# Altium schematic symbol library 8A8K64S4A12.SCHLIB: 30 symbols
Pins are listed as number, name and electrical type; pins without a type are passive.

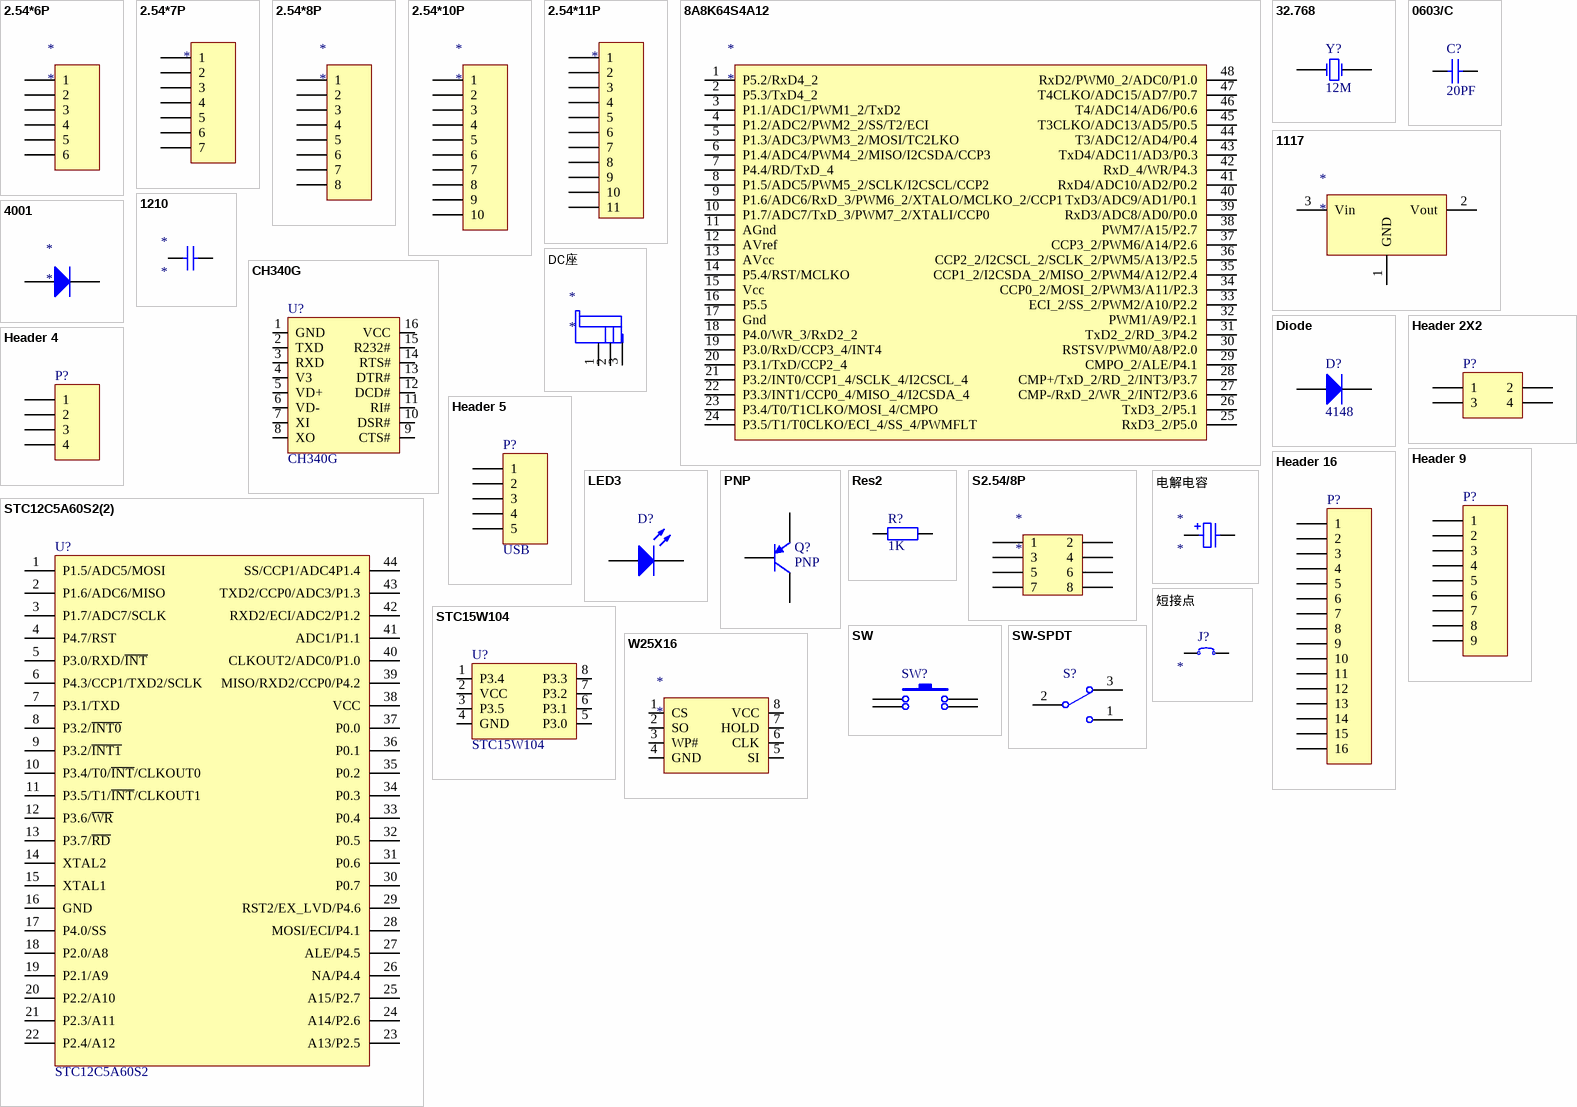
[diagram p0: symbols 2.54*6P to 短接点]

## 2.54*6P
designator *
footprint P2.54/6PIN
pins: 1, 2, 3, 4, 5, 6

## 2.54*7P
designator *
footprint P2.54*7PIN
pins: 1, 2, 3, 4, 5, 6, 7

## 2.54*8P
designator *
footprint P2.54/8PIN
pins: 1, 2, 3, 4, 5, 6, 7, 8

## 2.54*10P
designator *
footprint P2.54/10PIN
pins: 1, 2, 3, 4, 5, 6, 7, 8, 9, 10

## 2.54*11P
designator *
footprint P2.54/11PIN
pins: 1, 2, 3, 4, 5, 6, 7, 8, 9, 10, 10 11

## 8A8K64S4A12
designator *
footprint LQFP48
pins: 1 P5.2/RxD4_2, 2 P5.3/TxD4_2, 3 P1.1/ADC1/PWM1_2/TxD2, 4 P1.2/ADC2/PWM2_2/SS/T2/ECI, 5 P1.3/ADC3/PWM3_2/MOSI/TC2LKO, 6 P1.4/ADC4/PWM4_2/MISO/I2CSDA/CCP3, 7 P4.4/RD/TxD_4, 8 P1.5/ADC5/PWM5_2/SCLK/I2CSCL/CCP2, 9 P1.6/ADC6/RxD_3/PWM6_2/XTALO/MCLKO_2/CCP1, 10 P1.7/ADC7/TxD_3/PWM7_2/XTALI/CCP0, 11 AGnd, 12 AVref, 13 AVcc, 14 P5.4/RST/MCLKO, 15 Vcc, 16 P5.5, 17 Gnd, 18 P4.0/WR_3/RxD2_2, 19 P3.0/RxD/CCP3_4/INT4, 20 P3.1/TxD/CCP2_4, 21 P3.2/INT0/CCP1_4/SCLK_4/I2CSCL_4, 22 P3.3/INT1/CCP0_4/MISO_4/I2CSDA_4, 23 P3.4/T0/T1CLKO/MOSI_4/CMPO, 24 P3.5/T1/T0CLKO/ECI_4/SS_4/PWMFLT, 25 RxD3_2/P5.0, 26 TxD3_2/P5.1, 27 CMP-/RxD_2/WR_2/INT2/P3.6, 28 CMP+/TxD_2/RD_2/INT3/P3.7, 29 CMPO_2/ALE/P4.1, 30 RSTSV/PWM0/A8/P2.0, 31 TxD2_2/RD_3/P4.2, 32 PWM1/A9/P2.1, 33 ECI_2/SS_2/PWM2/A10/P2.2, 34 CCP0_2/MOSI_2/PWM3/A11/P2.3, 35 CCP1_2/I2CSDA_2/MISO_2/PWM4/A12/P2.4, 36 CCP2_2/I2CSCL_2/SCLK_2/PWM5/A13/P2.5, 37 CCP3_2/PWM6/A14/P2.6, 38 PWM7/A15/P2.7, 39 RxD3/ADC8/AD0/P0.0, 40 TxD3/ADC9/AD1/P0.1, 41 RxD4/ADC10/AD2/P0.2, 42 RxD_4/WR/P4.3, 43 TxD4/ADC11/AD3/P0.3, 44 T3/ADC12/AD4/P0.4, 45 T3CLKO/ADC13/AD5/P0.5, 46 T4/ADC14/AD6/P0.6, 47 T4CLKO/ADC15/AD7/P0.7, 48 RxD2/PWM0_2/ADC0/P1.0

## 32.768
designator Y?, comment 12M
footprint 0603
footprint 晶振HC-49/SMD
pins: 1 OSC1, 2 OSC2

## 0603/C
designator C?, comment 20PF
footprint 0603/C
pins: 1, 2

## 1117
designator *
footprint SOT-223
pins: 1 GND, 2 Vout, 3 Vin

## 1210
designator *
footprint 1210
pins: 1, 2

## 4001
designator *
footprint 4001
pins: 1 A, 2 K

## CH340G
designator U?
footprint SOP16
pins: 1 GND, 2 TXD, 3 RXD, 4 V3, 5 VD+, 6 VD-, 7 XI, 8 XO, 9 CTS#, 10 DSR#, 11 RI#, 12 DCD#, 13 DTR#, 14 RTS#, 15 R232#, 16 VCC

## DC座
designator *
footprint DC座
pins: 1 *, 2 *, 3 *

## Diode
designator D?, comment 4148
Default Diode; Published: 8-Jun-2000; LatestRevisionDate: 17-Jul-2002; LatestRevisionNote: Re-released for DXP Platform.; PackageVersion: Sep-1996; PackageReference: SMC; Publisher: Altium Limited; PackageDescription: DO-214-AB/SMC; 2 C-Bend Leads; Body 7.9 x 5.9 mm, inc. leads (LxW); Code_JEDEC: DO-214-AB
footprint SMC (DO-214-AB/SMC; 2 C-Bend Leads; Body 7.9 x 5.9 mm, inc. leads (LxW))
simulation model DIODE (Diode)
signal-integrity model Diode
footprint 二极管
pins: 1 A, 2 K

## Header 2X2
designator P?  (value not drawn)
Header, 2-Pin, Dual row; LatestRevisionDate: 17-Jul-2002; LatestRevisionNote: Re-released for DXP Platform.; Publisher: Altium Limited
footprint HDR2X2 (Connector; Header; 2x2 Position)
signal-integrity model Connector
pins: 1, 2, 3, 4

## Header 4
designator P?  (value not drawn)
Header, 4-Pin; LatestRevisionDate: 17-Jul-2002; LatestRevisionNote: Re-released for DXP Platform.; Publisher: Altium Limited
footprint HDR1X4 (Connector; Header; 4 Position)
signal-integrity model Connector
footprint P2.54/4PIN
pins: 1, 2, 3, 4

## Header 5
designator P?, comment USB
Header, 5-Pin; LatestRevisionDate: 17-Jul-2002; LatestRevisionNote: Re-released for DXP Platform.; Publisher: Altium Limited
footprint HDR1X5 (Connector; Header; 5 Position)
signal-integrity model Connector
footprint USB
pins: 1, 2, 3, 4, 5

## Header 9
designator P?  (value not drawn)
Header, 9-Pin; LatestRevisionDate: 17-Jul-2002; LatestRevisionNote: Re-released for DXP Platform.; Publisher: Altium Limited
footprint HDR1X9 (Connector; Header; 9 Position)
signal-integrity model Connector
footprint P2.54/9PIN
pins: 1, 2, 3, 4, 5, 6, 7, 8, 9

## Header 16
designator P?  (value not drawn)
Header, 16-Pin; LatestRevisionDate: 17-Jul-2002; LatestRevisionNote: Re-released for DXP Platform.; Publisher: Altium Limited
footprint HDR1X16 (Connector; Header; 16 Position)
signal-integrity model Connector
footprint P2.54/16PIN
pins: 1, 2, 3, 4, 5, 6, 7, 8, 9, 10, 11, 12, 13, 14, 15, 16

## LED3
designator D?  (value not drawn)
Typical BLUE SiC LED; Published: 8-Jun-2000; LatestRevisionDate: 17-Dec-2003; LatestRevisionNote: PCB Footprint replaced.; DatasheetVersion: 16-Apr-2002; PackageVersion: 16-Apr-2002; PackageReference: 3.5X2.8X1.9; Publisher: Altium Limited; PackageDescription: SM LED; 2 C-Bend Leads; Body 3.5 x 2.8 x 1.9 mm, inc leads (LxWxH typ)
footprint LED/0603
pins: 1 A, 2 K

## PNP
designator Q?
PNP Bipolar Transistor; Published: 8-Jun-2000; LatestRevisionDate: 29-May-2009; LatestRevisionNote: IPC-7351 Footprint Added.; PackageVersion: Aug-1999; PackageReference: SOT-23B; Publisher: Altium Limited; PackageDescription: 3-Pin SOT-23 Package 0.95 mm Pitch, 2.4 mm Lead Span
footprint SOT-23B_N (SOT23, 3-Leads, Body 2.9x1.3mm, Pitch 0.95mm, Lead Span 2.4mm, IPC Medium Density)
footprint SOT-23B_L (SOT23, 3-Leads, Body 2.9x1.3mm, Pitch 0.95mm, Lead Span 2.4mm, IPC High Density)
footprint SOT-23B_M (SOT23, 3-Leads, Body 2.9x1.3mm, Pitch 0.95mm, Lead Span 2.4mm, IPC Low Density)
simulation model PNP
signal-integrity model PNP
footprint PNP
footprint PNP
footprint PNP
pins: 1 C, 2 B, 3 E

## Res2
designator R?, comment 1K
Resistor; Published: 8-Jun-2000; LatestRevisionDate: 17-Jul-2002; LatestRevisionNote: Re-released for DXP Platform.; PackageReference: AXIAL-0.4; Publisher: Altium Limited; PackageDescription: Axial Device, Thru-Hole; 2 Leads; 0.4 in Pin Spacing; Value: 1K
footprint AXIAL-0.4 (Axial Device, Thru-Hole; 2 Leads; 0.4 in Pin Spacing)
simulation model RESISTOR (Resistor)
signal-integrity model Res
footprint 0603/R
pins: 1, 2

## S2.54/8P
designator *
footprint S2.54/8P
pins: 1, 2, 3, 4, 5, 6, 7, 8

## STC12C5A60S2(2)
designator U?, comment STC12C5A60S2
footprint LQFP32
footprint LQFP44
footprint LQFP44
pins: 1 P1.5/ADC5/MOSI, 2 P1.6/ADC6/MISO, 3 P1.7/ADC7/SCLK, 4 P4.7/RST, 5 P3.0/RXD/~{INT}, 6 P4.3/CCP1/TXD2/SCLK, 7 P3.1/TXD, 8 P3.2/~{INT0}, 9 P3.2/~{INT1}, 10 P3.4/T0/~{INT}/CLKOUT0, 11 P3.5/T1/~{INT}/CLKOUT1, 12 P3.6/~{WR}, 13 P3.7/~{RD}, 14 XTAL2, 15 XTAL1, 16 GND, 17 P4.0/SS, 18 P2.0/A8, 19 P2.1/A9, 20 P2.2/A10, 21 P2.3/A11, 22 P2.4/A12, 23 A13/P2.5, 24 A14/P2.6, 25 A15/P2.7, 26 NA/P4.4, 27 ALE/P4.5, 28 MOSI/ECI/P4.1, 29 RST2/EX_LVD/P4.6, 30 P0.7, 31 P0.6, 32 P0.5, 33 P0.4, 34 P0.3, 35 P0.2, 36 P0.1, 37 P0.0, 38 VCC, 39 MISO/RXD2/CCP0/P4.2, 40 CLKOUT2/ADC0/P1.0, 41 ADC1/P1.1, 42 RXD2/ECI/ADC2/P1.2, 43 TXD2/CCP0/ADC3/P1.3, 44 SS/CCP1/ADC4P1.4

## STC15W104
designator U?
footprint SOP8
pins: 1 P3.4, 2 VCC, 3 P3.5, 4 GND, 5 P3.0, 6 P3.1, 7 P3.2, 8 P3.3

## SW
designator SW?
footprint SW点动
pins: 1, 1, 2, 2

## SW-SPDT
designator S?  (value not drawn)
SPDT Subminiature Toggle Switch, Right Angle Mounting, Vertical Actuation; Published: 24-Mar-1999; LatestRevisionDate: 17-Dec-2003; LatestRevisionNote: Schematic revised, PCB Footprint replaced.; DatasheetVersion: 05-Dec-2000; PackageReference: TL36WW15050; Publisher: Altium Limited; PackageDescription: Switch; 4 Leads; ComponentLink1Description: Manufacturer Link; ComponentLink1URL: http://www.apem.com
footprint TL36WW15050 (Switch; 4 Leads)
footprint 拨动开关
pins: 1, 2, 3

## W25X16
designator *
footprint SOP8
pins: 1 CS, 2 SO, 3 WP#, 4 GND, 5 SI, 6 CLK, 7 HOLD, 8 VCC

## 电解电容
designator *
footprint 电解电容
pins: 1, 2

## 短接点
designator J?
Comme: 短接点
footprint 短接点
pins: 1, 2